# EAGLE library part 124018312112A_124018312112A (library AT SoM Carrier Board V0.3r2)
USB-C (USB TYPE-C) USB 3.0 (USB 3.1 Gen 1, Superspeed) Receptacle Connector 24 Position Board Edge, Cutout; Surface Mount; Through Hole, Right Angle
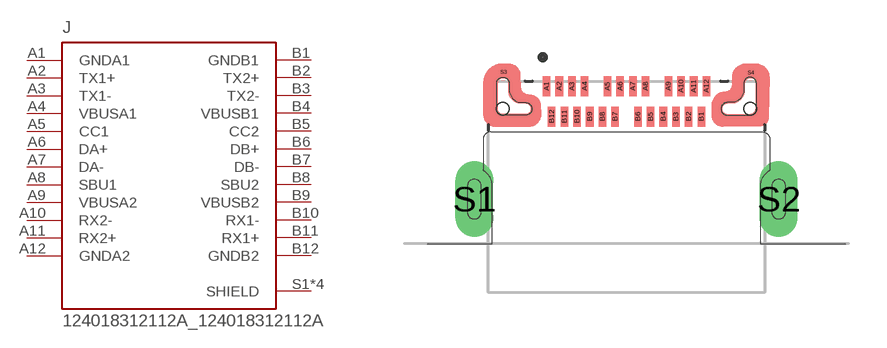
[diagram p0: symbol with the pads of 124018312112A_AMPHENOL_124018312112A; footprint 124018312112A_AMPHENOL_124018312112A]

Designator prefix J

## 124018312112A_124018312112A (AVAILABILITY: Unavailable; DESCRIPTION: USB-C _USB TYPE-C_ USB 3.0 _USB 3.1 Gen 1, Superspeed_ Receptacle Connector 24 Position Board Edge, Cutout; Surface Mount; Through Hole, Right Angle; MF: Amphenol ICC; MP: 124018312112A; PACKAGE: None; PRICE: None)  [124018312112A_AMPHENOL_124018312112A]
A1  GNDA1  pwr
A2  TX1+
A3  TX1-
A4  VBUSA1  pwr
A5  CC1
A6  DA+
A7  DA-
A8  SBU1
A9  VBUSA2  pwr
A10  RX2-
A11  RX2+
A12  GNDA2  pwr
B1  GNDB1  pwr
B2  TX2+
B3  TX2-
B4  VBUSB1  pwr
B5  CC2
B6  DB+
B7  DB-
B8  SBU2
B9  VBUSB2  pwr
B10  RX1-
B11  RX1+
B12  GNDB2  pwr
S1  SHIELD  pas
S2  SHIELD  pas
S3  SHIELD  pas
S4  SHIELD  pas

## Footprint 124018312112A_AMPHENOL_124018312112A (pad centres in mm)
smd 0.3 x 0.8: A1 -3.15,4.45; A2 -2.65,4.45; A3 -2.15,4.45; A4 -1.65,4.45; A5 -0.75,4.45; A6 -0.25,4.45; A7 0.25,4.45; A8 0.75,4.45; A9 1.65,4.45; A10 2.15,4.45; A11 2.65,4.45; A12 3.15,4.45; B1 2.95,3.25; B2 2.45,3.25; B3 1.95,3.25; B4 1.45,3.25; B5 0.95,3.25; B6 0.45,3.25; B7 -0.45,3.25; B8 -0.95,3.25; B9 -1.45,3.25; B10 -1.95,3.25; B11 -2.45,3.25; B12 -2.95,3.25
drill 0.5 pad 1.5 long: S1 -6,0; S2 6,0
smd 0.1 x 0.1: S3 -4.849,5.002; S4 4.901,4.976
hole 0.5 at -4.875,3.56
hole 0.5 at 4.875,3.56